# Altium footprint library microSD_ST11-H.PcbLib: 1 footprints
Each footprint in its own frame and in the unit in brackets; x right, y up, seen from the top. Pads: shape width x height; smd on the part's side, far side on the other; paste and mask are expansions set on the pad; w line width, h text height; cw(c..) or ccw(c..) is an arc to the next point about the centre after c.
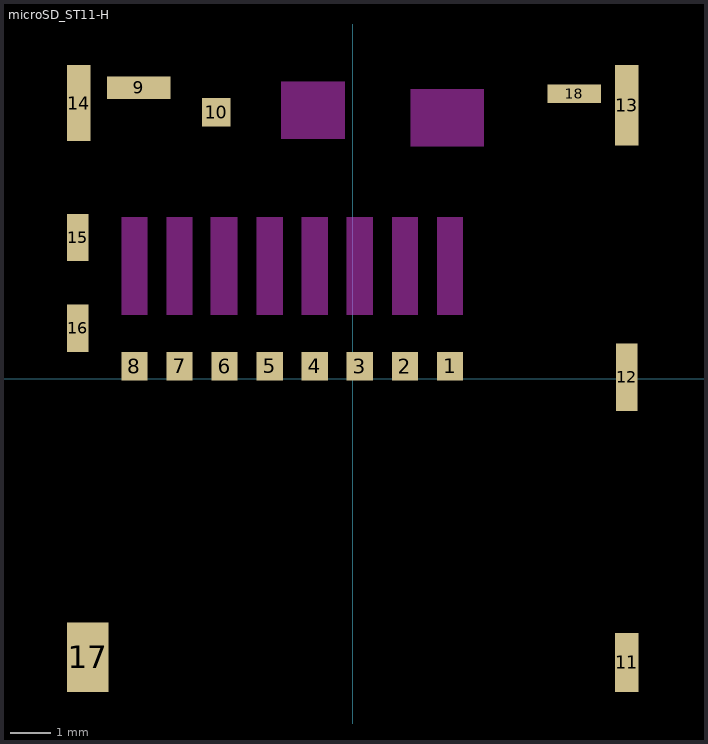
[diagram p0: the footprint, top view; thin cyan lines are the x and y axes]

## microSD_ST11-H [mm]
pads (18):
  rect 0.64x0.7 smd: 1(2.37,0.3) 2(1.27,0.3) 3(0.17,0.3) 4(-0.93,0.3) 5(-2.03,0.3) 6(-3.13,0.3) 7(-4.23,0.3) 8(-5.33,0.3)
  rect 1.55x0.55 smd: 9(-5.225,7.102)
  rect 0.7x0.7 smd: 10(-3.33,6.5)
  rect 0.57x1.45 smd: 11(6.685,-6.925)
  rect 0.52x1.65 smd: 12(6.685,0.03)
  rect 0.57x1.96 smd: 13(6.685,6.67)
  rect 0.57x1.85 smd: 14(-6.685,6.725)
  rect 0.52x1.15 smd: 15(-6.71,3.44) 16(-6.71,1.23)
  rect 1.01x1.7 smd: 17(-6.465,-6.8)
  rect 1.3x0.45 smd: 18(5.4,6.955)
Top Layer keep-out:
  rectangle: 2.05,1.55 2.69,3.95
  rectangle: 0.95,1.55 1.59,3.95
  rectangle: -1.25,1.55 -0.61,3.95
  rectangle: -2.35,1.55 -1.71,3.95
  rectangle: -0.15,1.55 0.49,3.95
  rectangle: -3.475,1.55 -2.81,3.95
  rectangle: -4.55,1.55 -3.91,3.95
  rectangle: -5.65,1.55 -5.01,3.95
  rectangle: 1.4,5.67 3.2,7.07
  rectangle: -1.75,5.85 -0.19,7.25
3D body: height 1.22, standoff -0.03, extent -6.7,-7.65 6.7,7.65